# Altium schematic symbol library DSPIC30F4013-20EP.SchLib: 2 symbols
Pins are listed as number, name and electrical type; pins without a type are passive.

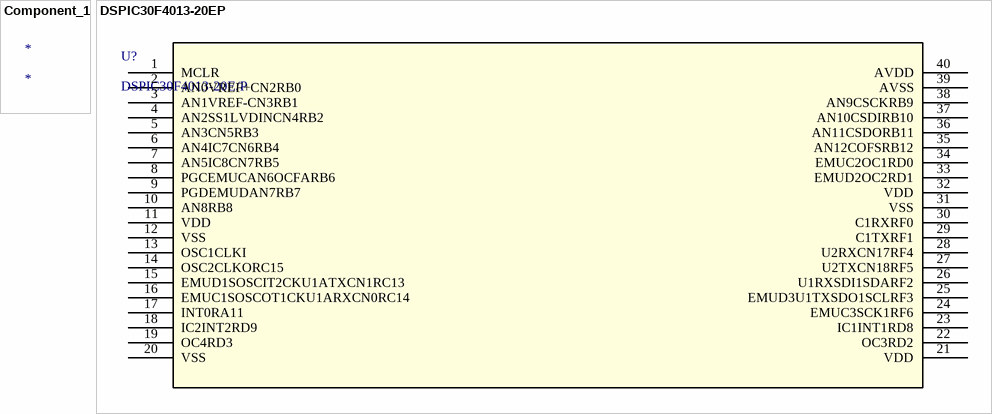
[diagram p0: symbols Component_1 to DSPIC30F4013-20EP]

## Component_1
designator *

## DSPIC30F4013-20EP
designator U?, comment DSPIC30F4013-20E/P
No Description Available; Mfr_Name: Microchip; Copyright: Copyright (C) 2024 Ultra Librarian. All rights reserved.; Manufacturer_Part_Number: DSPIC30F4013-20E/P; RefDes: RefDes; Type: DEV
footprint PDIP40_600MC_MCH
pins: 1 MCLR, 2 AN0VREF+CN2RB0, 3 AN1VREF-CN3RB1, 4 AN2SS1LVDINCN4RB2, 5 AN3CN5RB3, 6 AN4IC7CN6RB4, 7 AN5IC8CN7RB5, 8 PGCEMUCAN6OCFARB6, 9 PGDEMUDAN7RB7, 10 AN8RB8, 11 VDD, 12 VSS, 13 OSC1CLKI, 14 OSC2CLKORC15, 15 EMUD1SOSCIT2CKU1ATXCN1RC13, 16 EMUC1SOSCOT1CKU1ARXCN0RC14, 17 INT0RA11, 18 IC2INT2RD9, 19 OC4RD3, 20 VSS, 21 VDD, 22 OC3RD2, 23 IC1INT1RD8, 24 EMUC3SCK1RF6, 25 EMUD3U1TXSDO1SCLRF3, 26 U1RXSDI1SDARF2, 27 U2TXCN18RF5, 28 U2RXCN17RF4, 29 C1TXRF1, 30 C1RXRF0, 31 VSS, 32 VDD, 33 EMUD2OC2RD1, 34 EMUC2OC1RD0, 35 AN12COFSRB12, 36 AN11CSDORB11, 37 AN10CSDIRB10, 38 AN9CSCKRB9, 39 AVSS, 40 AVDD